# Altium footprint library PcbLib1.PcbLib: 2 footprints
Each footprint in its own frame and in the unit in brackets; x right, y up, seen from the top. Pads: shape width x height; smd on the part's side, far side on the other; paste and mask are expansions set on the pad; w line width, h text height; cw(c..) or ccw(c..) is an arc to the next point about the centre after c.
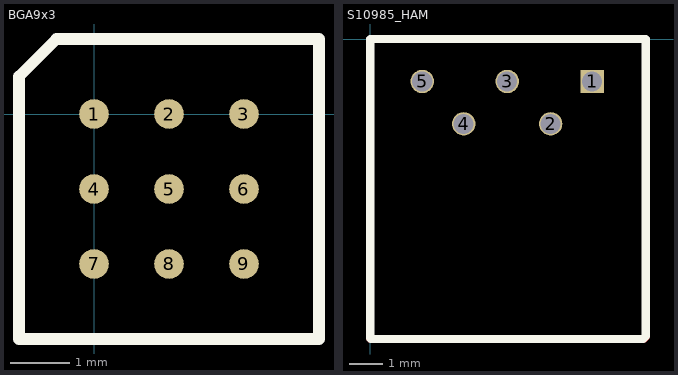
[diagram p0: the footprints below, top view; thin cyan lines are the x and y axes]

## BGA9x3 [mm]
pads (9):
  round 0.5 smd: 1(0,0) 2(1.27,0) 3(2.54,0) 4(0,-1.27) 5(1.27,-1.27) 6(2.54,-1.27) 7(0,-2.54) 8(1.27,-2.54) 9(2.54,-2.54)
Top Overlay:
  lines w0.2: -1.27,-3.81 3.81,-3.81 3.81,1.27 -0.635,1.27 -1.27,0.635 -1.27,-3.81

## S10985_HAM [mm]
pads (5):
  rect 0.7x0.7 hole 0.6: 1(6.64,-1.27)
  round 0.7 hole 0.6: 2(5.4,-2.54) 3(4.1,-1.27) 4(2.8,-2.54) 5(1.56,-1.27)
Top Layer:
  lines w0.254: 0,-8.95 0.025,-8.975 ; 8.175,-8.975 8.25,-8.9
Top Overlay:
  lines w0.254: 0,-8.95 0,0 8.25,0 8.25,-8.9 ; 0.025,-8.975 8.175,-8.975